# EAGLE library part LM2621 (library GW-devices)
LM2621 buck-boost regulator
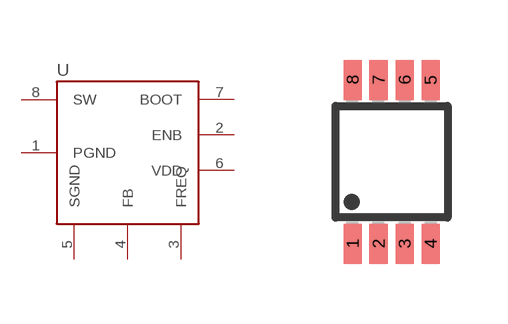
[diagram p12: symbol with the pads of MSOP8; footprint MSOP8]

Designator prefix -

## LM2621  [MSOP8]
1  PGND
2  ENB
3  FREQ
4  FB
5  SGND
6  VDD
7  BOOT
8  SW

## Footprint MSOP8 (pad centres in mm)
Micro Small Outline Package Grid .65mm
smd 0.45 x 1: 1 -0.975,-2.05; 2 -0.325,-2.05; 3 0.325,-2.05; 4 0.975,-2.05; 5 0.975,2.05; 6 0.325,2.05; 7 -0.325,2.05; 8 -0.975,2.05